# Altium footprint library FIDUCIAL_1.5MM.PcbLib: 1 footprints
Each footprint in its own frame and in the unit in brackets; x right, y up, seen from the top. Pads: shape width x height; smd on the part's side, far side on the other; paste and mask are expansions set on the pad; w line width, h text height; cw(c..) or ccw(c..) is an arc to the next point about the centre after c.
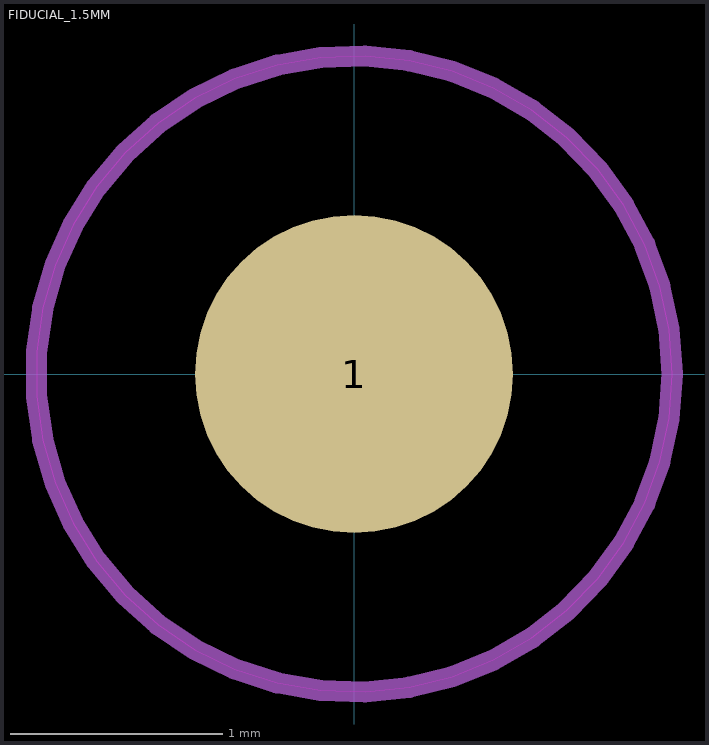
[diagram p0: the footprint, top view; thin cyan lines are the x and y axes]

## FIDUCIAL_1.5MM [mm] "Fiducial 1.5MM"
pads (1):
  round 1.5 smd paste-0.75 mask+0.75: 1(0,0)
Keep-Out Layer:
  circle w0: c0,0 r1.5
Top Assembly:
  circle w0.1: c0,0 r1.5
Top Designator:
  text ".Designator" at -3.999,-0.267 h0.8